# Altium schematic symbol library MAX12930BASA&plus_.SchLib: 1 symbol
Pins are listed as number, name and electrical type; pins without a type are passive.

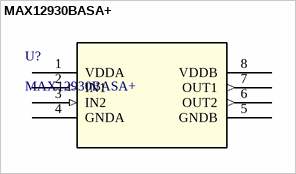
[diagram p0: symbol MAX12930BASA+]

## MAX12930BASA+
designator U?
No Description Available; Mfr_Name: Maxim Integrated Products; Copyright: Copyright (C) 2021 Ultra Librarian. All rights reserved.; Manufacturer_Part_Number: MAX12930BASA+; RefDes: RefDes; Type: DEV
footprint 21-0041B_8_MXM
pins: 1 VDDA (power), 2 IN1 (in), 3 IN2 (in), 4 GNDA, 5 GNDB, 6 OUT2 (out), 7 OUT1 (out), 8 VDDB (power)